# Altium schematic symbol library SW-6WAY.Schlib: 1 symbol
Pins are listed as number, name and electrical type; pins without a type are passive.

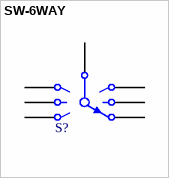
[diagram p0: symbol SW-6WAY]

## SW-6WAY
designator S?
6 Way Switch
pins: 1, 2, 3, 4, 5, 6, 7